# Altium schematic symbol library Aluminum_Polymer_Cap.SchLib: 2 symbols
Pins are listed as number, name and electrical type; pins without a type are passive.

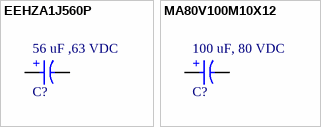
[diagram p0: symbols EEHZA1J560P to MA80V100M10X12]

## EEHZA1J560P
designator C?, comment 56 uF ,63 VDC
CAP ALUM HYBRID 47uF ±20% 80V SMD; Manufacturer: PANASONIC; Manufacturer Part Number: EEHZA1J560P; Capacitance: 56 uF; Capacitance Tolerance: +/-20%; Dissipation Factor: 24%; Endurance: 10000 Hour; Leakage Current: 3uA; Rated Voltage (DC): 63 VDC; Ripple Current: 1.8 A; Value: 56 uF; ESR: 30 mOhms; Category: Aluminum - Polymer Capacitors; Mount: Surface Mount; Operating Temperature Max: 105°C; Operating Temperature Min: -55°C; Packaging: Tape and Reel; Height: 10.2 mm; Diameter: 10 mm; Supplier 1 URL: https://www.mouser.vn/en/ProductDetail/Panasonic/EEH-ZA1J560P?qs=7UCyOFMWVHbHkYxc6C3jnw%3D%3D; Supplier 3 URL: N/A; Supplier 2 URL: https://www.digikey.com/en/products/detail/panasonic-industry/EEH-ZA1J560P/3088132?s=N4IgTCBcDaIKJwBIC0CCBGAUgVgGwAYAFEAXQF8g; Supplier 1: Mouser; Supplier 1 Part Number: 667-EEH-ZA1J560P; Supplier 2: Digi-Key; Supplier 2 Part Number: P15449TR-ND; Supplier 3: thegioiic; Supplier 3 Part Number: N/A; ComponentLink1Description: Datasheet; ComponentLink1URL: https://www.lcsc.com/datasheet/C178638.pdf?spm=wm.sxq.inf.ggs___wm.fly.bg.2.xh&lcsc_vid=FQMKBABWTgUIBQJQFFEMBgBUFFIPVlNeFQReAQVWFFgxVlNeQlBfX11WRFZeUTsOAxUeFF5JWBYZEEoKFBINSQcJGk4NBhADEA4cHktXR1BYSQwSGg0%3D; LCSC Part #: C178638
footprint WCAP-ASLI_D10H10.5 (Aluminium Electrolytic V-Chip SMT Capacitors, 10x10.5mm)
pins: 1 P, 2 N
text: +

## MA80V100M10X12
designator C?, comment 100 uF, 80 VDC
CAP ALUM HYBRID 100 uF ±20% 80 VDC SMD; Manufacturer: JIERR; Manufacturer Part Number: MA80V100M10X12; Capacitance: 100 uF; Capacitance Tolerance: +/-20%; Dissipation Factor: 24%; Endurance: 2000 Hour; Leakage Current: 3uA; Rated Voltage (DC): 80 VDC; Ripple Current: 2.9 A; Value: 100 uF; ESR: 35 mOhms; Category: Aluminum - Polymer Capacitors; Mount: Surface Mount; Operating Temperature Max: 105°C; Operating Temperature Min: -55°C; Packaging: Tape and Reel; Height: 12.5 mm; Diameter: 10 mm; Supplier 1 URL: N/A; Supplier 3 URL: N/A; Supplier 2 URL: N/A; Supplier 1: Mouser; Supplier 1 Part Number: N/A; Supplier 2: Digi-Key; Supplier 2 Part Number: N/A; Supplier 3: thegioiic; Supplier 3 Part Number: N/A; ComponentLink1Description: Datasheet; ComponentLink1URL: https://www.lcsc.com/datasheet/C53120969.pdf?spm=wm.sxq.inf.ggs___wm.fly.bg.4.xh&lcsc_vid=FQMKBABWTgUIBQJQFFEMBgBUFFIPVlNeFQReAQVWFFgxVlNeQlJfUFNSQ1JeUzsOAxUeFF5JWBYZEEoKFBINSQcJGk4NBhADEA4cHktXRlVcSQwSGg0%3D; LCSC Part #: C48970690
footprint WCAP-ASLI_D10H10.5 (Aluminium Electrolytic V-Chip SMT Capacitors, 10x10.5mm)
pins: 1 P, 2 N
text: +